# Altium footprint library PS1608G.PcbLib: 2 footprints
Each footprint in its own frame and in the unit in brackets; x right, y up, seen from the top. Pads: shape width x height; smd on the part's side, far side on the other; paste and mask are expansions set on the pad; w line width, h text height; cw(c..) or ccw(c..) is an arc to the next point about the centre after c.
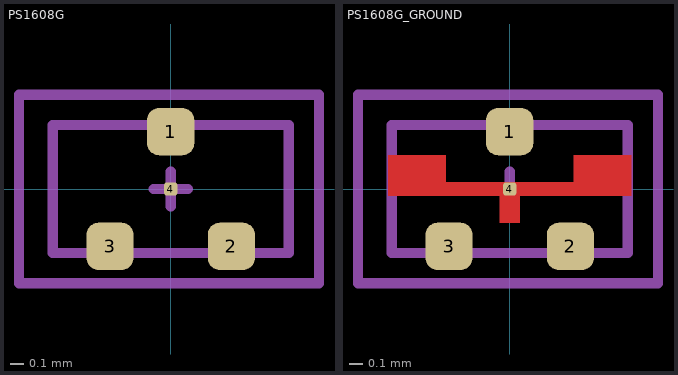
[diagram p0: the footprints below, top view; thin cyan lines are the x and y axes]

## PS1608G [mm]
pads (4):
  rrect50% 0.35x0.35 smd mask+0.05: 1(0,0.425) 2(0.45,-0.425) 3(-0.45,-0.425)
  rrect50% 0.1x0.1 smd mask+0: 4(0,0)
Top Assembly:
  lines w0.076: -0.875,-0.475 -0.875,0.475 0.875,0.475 0.875,-0.475 -0.875,-0.475
Top Courtyard:
  lines w0.076: -0.127,0 0.127,0 ; 0,-0.127 0,0.127 ; -1.125,-0.7 1.1,-0.7 1.1,0.7 -1.125,0.7 -1.125,-0.7
3D body "RES 0603 (1608 metric).STEP": height 0.54, standoff -0.01, extent -0.875,-0.475 0.875,0.475

## PS1608G_GROUND [mm]
pads (4):
  rrect50% 0.35x0.35 smd mask+0.05: 1(0,0.425) 2(0.45,-0.425) 3(-0.45,-0.425)
  rrect50% 0.1x0.1 smd mask+0: 4(0,0)
Top Layer:
  region: -0.9,0.25 -0.9,-0.05 -0.075,-0.05 -0.075,-0.25 0.075,-0.25 0.075,-0.05 0.9,-0.05 0.9,0.25 0.475,0.25 0.475,0.05 -0.475,0.05 -0.475,0.25
Top Assembly:
  lines w0.076: -0.875,-0.475 0.875,-0.475 0.875,0.475 -0.875,0.475 -0.875,-0.475
Top Courtyard:
  lines w0.076: -0.127,0 0.127,0 ; 0,-0.127 0,0.127 ; -1.125,-0.7 -1.125,0.7 1.1,0.7 1.1,-0.7 -1.125,-0.7
3D body "RES 0603 (1608 metric).STEP": height 0.54, standoff -0.01, extent -0.875,-0.475 0.875,0.475